# Altium schematic symbol library PMOS.SchLib: 1 symbol
Pins are listed as number, name and electrical type; pins without a type are passive.

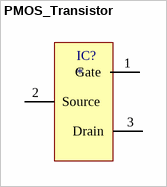
[diagram p0: symbol PMOS_Transistor]

## PMOS_Transistor
designator IC?
PMOS
footprint PMOS
pins: 1 Gate, 2 Source, 3 Drain